# Altium schematic symbol library DIO-2S.SchLib: 1 symbol
Pins are listed as number, name and electrical type; pins without a type are passive.

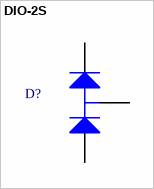
[diagram p0: symbol DIO-2S]

## DIO-2S
designator D?
Silicon Switching Diode Array for High-Speed Switching
pins: 1 A, 2 K, 3 C